# Altium footprint library Conn.Phoenix.PcbLib: 9 footprints
Each footprint in its own frame and in the unit in brackets; x right, y up, seen from the top. Pads: shape width x height; smd on the part's side, far side on the other; paste and mask are expansions set on the pad; w line width, h text height; cw(c..) or ccw(c..) is an arc to the next point about the centre after c.
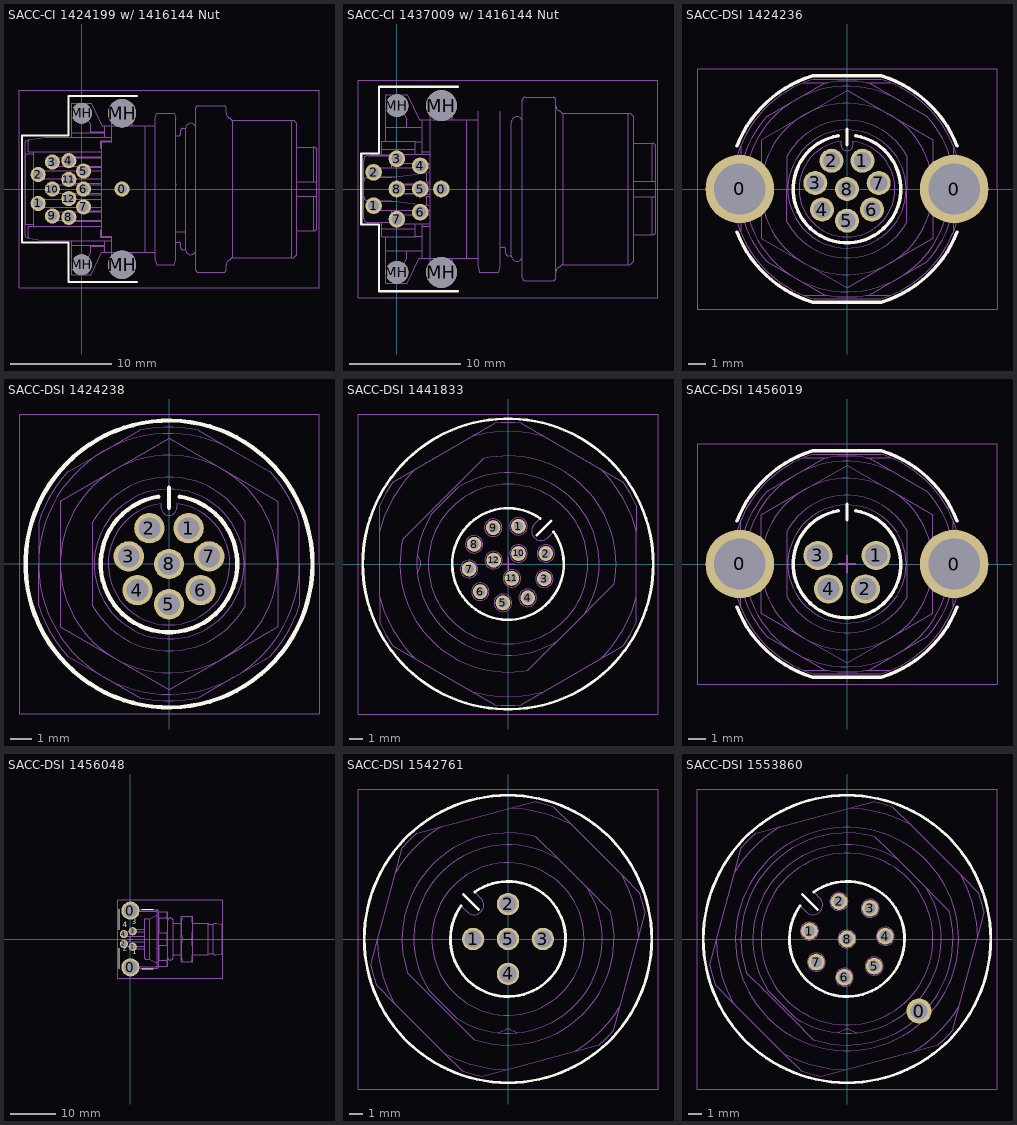
[diagram p0: the footprints below, top view; thin cyan lines are the x and y axes]

## SACC-CI 1424199 w/ 1416144 Nut [mm] "Phoenic SACC-CI Connector with SACC-DSIV-NUT 1416144, 12-Lead, Right Angle Mount"
height 15.9
pads (17):
  round 1.5 hole 1: 0(4,0) 1(-4.3,-1.43) 2(-4.3,1.43) 3(-2.9,2.67) 4(-1.27,2.8) 5(0.2,1.77) 6(0.2,0) 7(0.2,-1.77) 8(-1.27,-2.8) 9(-2.9,-2.67) 10(-2.9,0) 11(-1.27,0.95) 12(-1.27,-0.95)
  round 2.05 hole 2.05 unplated: MH(0,7.5) MH(0,-7.5)
  round 2.8 hole 2.8 unplated: MH(4,-7.5) MH(4,7.5)
Top Overlay:
  lines w0.2: 5.5,-9.2 -1.3,-9.2 -1.3,-5.3 -5.9,-5.3 -5.9,5.3 -1.3,5.3 -1.3,9.2 5.5,9.2
Mechanical 1:
  drawing of 154 lines, arcs and shapes, not listed
Mechanical 15:
  lines w0.05: -6.2,-9.8 23.5,-9.8 23.5,9.8 -6.2,9.8 -6.2,-9.8
  lines w0.1: -0.5,0 0.5,0 ; 0,-0.5 0,0.5
3D body "Phoenix-SACC-CI-1424199_SACC-DSIV-NUT-1416144.STEP": height 16, standoff -3.2, extent -5.7,-9.59 23.3,9.59

## SACC-CI 1437009 w/ 1416144 Nut [mm] "Phoenic SACC-CI Connector with SACC-DSIV-NUT 1416144, 8-Lead, Right Angle Mount"
height 15.9
pads (13):
  round 1.5 hole 1: 0(4,0) 1(-2.1,-1.5) 2(-2.1,1.5) 3(0,2.72) 4(2.1,2.08) 5(2.1,0) 6(2.1,-2.08) 7(0,-2.72) 8(0,0)
  round 2.05 hole 2.05 unplated: MH(0,-7.5) MH(0,7.5)
  round 2.8 hole 2.8 unplated: MH(4,-7.5) MH(4,7.5)
Top Overlay:
  lines w0.2: 5.5,-9.2 -1.6,-9.2 -1.6,-3.2 -3.2,-3.2 -3.2,3.2 -1.6,3.2 -1.6,9.2 5.5,9.2
Mechanical 1:
  drawing of 426 lines, arcs and shapes, not listed
Mechanical 15:
  lines w0.05: -3.5,-9.8 -3.5,9.8 23.5,9.8 23.5,-9.8 -3.5,-9.8
  lines w0.1: -0.5,0 0.5,0 ; 0,-0.5 0,0.5
3D body "Phoenix_SACC-CI-1437009_SACC-DSIV-NUT-1416144.STEP": height 16, standoff -3.2, extent -3,-9.6 23.3,9.6

## SACC-DSI 1424236 [mm] "Phoenix SACC-DSI Header, 8-Leads, 17.7mm Height"
height 17.7
pads (10):
  round 4 hole 3: 0(-6.25,0) 0(6.25,0)
  round 1.4 hole 1: 1(0.9,1.65) 2(-0.9,1.65) 3(-1.85,0.35) 4(-1.45,-1.2) 5(0,-1.85) 6(1.45,-1.2) 7(1.85,0.35) 8(0,0)
Top Overlay:
  lines w0.2: -6.424,-2.509 ccw(c0,0) -2,-6.6 2,-6.6 ccw(c0,0) 6.424,-2.509 ; -6.424,2.509 cw(c0,0) -2,6.6 2,6.6 cw(c0,0) 6.424,2.509 ; -0.5,3.1 ccw(c0,0) 0.5,3.1 ; 0,2.586 0,3.5
Mechanical 1:
  circle w0.05: c1.85,0.35 r0.3
  circle w0.05: c0.9,1.65 r0.3
  circle w0.05: c0,0 r0.3
  circle w0.05: c-1.85,0.35 r0.3
  circle w0.05: c-0.9,1.65 r0.3
  circle w0.05: c-1.45,-1.2 r0.3
  circle w0.05: c0,-1.85 r0.3
  circle w0.05: c1.45,-1.2 r0.3
  circle w0.05: c0,0 r3.45
  circle w0.05: c0,0 r5
  lines w0.05: -6.2,-2.54 -6.2,2.54 ; -2.54,-6.2 -1.118,-6.2 ; -2.54,6.2 -1.118,6.2 ; 1.118,-6.2 2.54,-6.2 ; 1.118,6.2 2.54,6.2 ; 6.2,-2.54 6.2,2.54 ; 3,5.196 ccw(c0,0) 6,0 ; 3,5.196 4.664,4.236 cw(c0,0) 6,1.921 6,0 ; 3,5.196 1.336,6.157 ccw(c0,0) -1.336,6.157 -3,5.196 -4.664,4.236 ccw(c0,0) -6,1.921 -6,0 -6,-1.921 ccw(c0,0) -4.664,-4.236 -3,-5.196 -1.336,-6.157 ccw(c0,0) 1.336,-6.157 3,-5.196 4.664,-4.236 ccw(c0,0) 6,-1.921 6,0 ; -6.4,-1.982 ccw(c0,0) -1.982,-6.4 1.982,-6.4 ccw(c0,0) 6.4,-1.982 6.4,1.982 ccw(c0,0) 1.982,6.4 -1.982,6.4 ccw(c0,0) -6.4,1.982 -6.4,-1.982 ; -5,-2.887 0,-5.774 5,-2.887 5,2.887 0,5.774 -5,2.887 -5,-2.887 ; -3.5,-1.936 ccw(c0,0) 3.5,-1.936 3.5,1.936 ccw(c0,0) -3.5,1.936 -3.5,-1.936 ; -0.35,2.586 ccw(c0,2.586) 0.35,2.586 0.35,2.778 cw(c0,0) -0.35,2.778 -0.35,2.586
Mechanical 15:
  lines w0.05: -8.75,-7 -8.75,7 8.75,7 8.75,-7 -8.75,-7
  lines w0.1: -0.5,0 0.5,0 ; 0,-0.5 0,0.5
3D body "1424236.STEP": height 17.7, standoff -2.9, extent -6.4,-6.4 6.4,6.4

## SACC-DSI 1424238 [mm] "Phoenix SACC-DSI Header, 8-Leads, 17mm Height"
height 17
pads (8):
  round 1.4 hole 1: 1(0.9,1.65) 2(-0.9,1.65) 3(-1.85,0.35) 4(-1.45,-1.2) 5(0,-1.85) 6(1.45,-1.2) 7(1.85,0.35) 8(0,0)
Top Overlay:
  circle w0.2: c0,0 r6.6
  lines w0.2: -0.5,3.1 ccw(c0,0) 0.5,3.1 ; 0,2.586 0,3.5
Mechanical 1:
  circle w0.05: c1.85,0.35 r0.3
  circle w0.05: c0.9,1.65 r0.3
  circle w0.05: c0,0 r0.3
  circle w0.05: c-1.85,0.35 r0.3
  circle w0.05: c-0.9,1.65 r0.3
  circle w0.05: c-1.45,-1.2 r0.3
  circle w0.05: c0,-1.85 r0.3
  circle w0.05: c1.45,-1.2 r0.3
  circle w0.05: c0,0 r3.45
  circle w0.05: c0,0 r5
  lines w0.05: 3,5.196 ccw(c0,0) 6,0 ; 3,5.196 4.664,4.236 cw(c0,0) 6,1.921 6,0 ; 3,5.196 1.336,6.157 ccw(c0,0) -1.336,6.157 -3,5.196 -4.664,4.236 ccw(c0,0) -6,1.921 -6,0 -6,-1.921 ccw(c0,0) -4.664,-4.236 -3,-5.196 -1.336,-6.157 ccw(c0,0) 1.336,-6.157 3,-5.196 4.664,-4.236 ccw(c0,0) 6,-1.921 6,0 ; -5,-2.887 0,-5.774 5,-2.887 5,2.887 0,5.774 -5,2.887 -5,-2.887 ; -3.5,-1.936 ccw(c0,0) 3.5,-1.936 3.5,1.936 ccw(c0,0) -3.5,1.936 -3.5,-1.936 ; -0.35,2.586 ccw(c0,2.586) 0.35,2.586 0.35,2.778 cw(c0,0) -0.35,2.778 -0.35,2.586
Mechanical 15:
  lines w0.05: -6.9,-6.9 -6.9,6.9 6.9,6.9 6.9,-6.9 -6.9,-6.9
  lines w0.1: -0.5,0 0.5,0 ; 0,-0.5 0,0.5
3D body "Phoenix_SACC-DSI_1424238.STEP": height 17, standoff -3.6, extent -6,-6.3 6,6.3

## SACC-DSI 1441833 [mm] "Phoenix SACC-DSI Socket, 25.10mm Height, 12-Lead"
height 25.1
pads (12):
  round 1.1 hole 0.7: 1(0.777,2.794) 2(2.795,0.775) 3(2.686,-1.092) 4(1.461,-2.505) 5(-0.373,-2.876) 6(-2.051,-2.05) 7(-2.876,-0.371) 8(-2.504,1.462) 9(-1.091,2.687) 10(0.778,0.778) 11(0.285,-1.063) 12(-1.063,0.285)
Top Overlay:
  circle w0.2: c0,0 r10.75
  lines w0.2: 2.121,2.121 3.182,3.182 ; 2.38,3.369 ccw(c0,0) 3.369,2.38
Mechanical 1:
  circle w0.05: c-2.876,-0.372 r0.65
  circle w0.05: c-2.051,-2.051 r0.65
  circle w0.05: c-0.372,-2.876 r0.65
  circle w0.05: c1.461,-2.505 r0.65
  circle w0.05: c2.686,-1.092 r0.65
  circle w0.05: c2.795,0.775 r0.65
  circle w0.05: c0.778,0.778 r0.65
  circle w0.05: c-1.063,0.285 r0.65
  circle w0.05: c0.285,-1.063 r0.65
  circle w0.05: c0.775,2.795 r0.65
  circle w0.05: c-1.092,2.686 r0.65
  circle w0.05: c-2.505,1.461 r0.65
  circle w0.05: c-2.876,-0.372 r0.5
  circle w0.05: c-2.051,-2.051 r0.5
  circle w0.05: c1.461,-2.505 r0.5
  circle w0.05: c2.686,-1.092 r0.5
  circle w0.05: c0.778,0.778 r0.5
  circle w0.05: c2.795,0.775 r0.5
  circle w0.05: c0.285,-1.063 r0.5
  circle w0.05: c-1.063,0.285 r0.5
  circle w0.05: c-2.505,1.461 r0.5
  circle w0.05: c-1.092,2.686 r0.5
  circle w0.05: c-0.372,-2.876 r0.5
  circle w0.05: c0.775,2.795 r0.5
  circle w0.05: c0,0 r5.9
  lines w0.05: -6.71,-0.701 -6.491,-0.199 ccw(c-6.95,0) -6.491,0.199 -6.71,0.701 ; -0.98,-10.404 -2.643,-9.444 ; -0.98,10.404 -2.643,9.444 ; -0.98,-10.404 ccw(c0,0) 0.98,-10.404 ; -0.98,10.404 cw(c0,0) 0.98,10.404 ; 0.98,-10.404 2.643,-9.444 ; 0.98,10.404 2.643,9.444 ; 2.726,-3.096 3.787,-1.635 ; -9.5,-2.433 ccw(c0,0) -6.857,-7.011 ; -9.5,-2.433 -9.5,-4.353 ccw(c0,0) -8.52,-6.051 -6.857,-7.011 ; -9.5,-2.433 -9.5,2.433 ; -9.5,2.433 cw(c0,0) -6.857,7.011 ; -9.5,2.433 -9.5,4.353 cw(c0,0) -8.52,6.051 -6.857,7.011 ; -6.857,-7.011 -2.643,-9.444 ; -6.857,7.011 -2.643,9.444 ; -2.643,-9.444 ccw(c0,0) 2.643,-9.444 ; -2.643,9.444 cw(c0,0) 2.643,9.444 ; 2.643,-9.444 6.857,-7.011 ; 2.643,9.444 6.857,7.011 ; 3.666,-5.668 cw(c0,0) -5.668,3.666 -3.666,5.668 cw(c0,0) 5.668,-3.666 ; 3.666,-5.668 5.668,-3.666 ; 3.666,-5.668 3.018,-6.316 1.47,-7.864 cw(c0,0) -7.788,1.828 -5.983,3.634 -3.634,5.983 -1.828,7.788 cw(c0,0) 7.864,-1.47 6.316,-3.018 5.668,-3.666 ; 6.857,-7.011 ccw(c0,0) 9.5,-2.433 ; 6.857,-7.011 8.52,-6.051 ccw(c0,0) 9.5,-4.353 9.5,-2.433 ; 6.857,7.011 cw(c0,0) 9.5,2.433 ; 6.857,7.011 8.52,6.051 cw(c0,0) 9.5,4.353 9.5,2.433 ; 9.5,-2.433 9.5,2.433 ; 1.945,2.934 ccw(c2.44,2.44) 2.934,1.945 3.369,2.38 cw(c0,0) 2.38,3.369 1.945,2.934
Mechanical 15:
  lines w0.05: -11.1,-11.1 11.1,-11.1 11.1,11.1 -11.1,11.1 -11.1,-11.1
  lines w0.1: -0.5,0 0.5,0 ; 0,-0.5 0,0.5
3D body "Phoenix_SACC-DSI_1441833.STEP": height 22.55, standoff -2.5, extent -9.5,-10.45 9.5,10.45

## SACC-DSI 1456019 [mm] "Phoenix SACC-DSI Header, 17.70mm Height, 4-Lead with 2 GND Pads"
height 17.7
pads (6):
  round 4 hole 3: 0(-6.25,0) 0(6.25,0)
  round 1.7 hole 1.3: 1(1.7,0.5) 2(1.075,-1.45) 3(-1.7,0.5) 4(-1.075,-1.45)
Top Overlay:
  lines w0.2: -6.424,-2.509 ccw(c0,0) -2,-6.6 2,-6.6 ccw(c0,0) 6.424,-2.509 ; -6.424,2.509 cw(c0,0) -2,6.6 2,6.6 cw(c0,0) 6.424,2.509 ; -0.5,3.1 ccw(c0,0) 0.5,3.1 ; 0,2.586 0,3.5
Mechanical 1:
  circle w0.05: c0,0 r3.45
  circle w0.05: c1.7,0.5 r0.5
  circle w0.05: c-1.7,0.5 r0.5
  circle w0.05: c0,0 r5
  circle w0.05: c1.075,-1.45 r0.5
  circle w0.05: c-1.075,-1.45 r0.5
  lines w0.05: -6.2,-2.54 -6.2,2.54 ; -2.54,-6.2 -1.118,-6.2 ; -2.54,6.2 -1.118,6.2 ; 1.118,-6.2 2.54,-6.2 ; 1.118,6.2 2.54,6.2 ; 6.2,-2.54 6.2,2.54 ; 3,5.196 ccw(c0,0) 6,0 ; 3,5.196 1.337,6.157 ccw(c0,0) -1.336,6.157 -3,5.196 -4.663,4.236 ccw(c0,0) -6,1.921 -6,0 -6,-1.921 ccw(c0,0) -4.663,-4.236 -3,-5.196 -1.336,-6.156 ccw(c0,0) 1.337,-6.156 3,-5.196 4.664,-4.236 ccw(c0,0) 6,-1.921 6,0 ; 3,5.196 4.664,4.236 cw(c0,0) 6,1.921 6,0 ; -6.4,-1.982 ccw(c0,0) -1.982,-6.4 1.983,-6.4 ccw(c0,0) 6.4,-1.982 6.4,1.983 ccw(c0,0) 1.983,6.4 -1.982,6.4 ccw(c0,0) -6.4,1.983 -6.4,-1.982 ; -5,-2.887 -2.5,-4.33 0,-5.773 2.5,-4.33 5,-2.887 5,0 5,2.887 2.5,4.33 0,5.774 -2.5,4.33 -5,2.887 -5,0 -5,-2.887 ; -3.5,-1.936 ccw(c0,0) 3.5,-1.936 3.5,0 3.5,1.937 ccw(c0,0) -3.5,1.937 -3.5,0 -3.5,-1.936
Mechanical 15:
  lines w0.05: -8.75,-7 -8.75,7 8.75,7 8.75,-7 -8.75,-7
  lines w0.1: -0.5,0 0.5,0 ; 0,-0.5 0,0.5
3D body "Phoenix_SACC-DSI_1456019.STEP": height 17.7, standoff -2.9, extent -6.4,-6.4 6.4,6.4

## SACC-DSI 1456048 [mm] "Phoenix SACC-DSI Header, 4 Leads, 17.00mm Length"
height 12.7
pads (6):
  round 4 hole 3: 0(0,-6.25) 0(0,6.25)
  round 1.8 hole 1.3: 1(0.5,-1.7) 2(-1.45,-1.075) 3(0.5,1.7) 4(-1.45,1.075)
Top Overlay:
  lines w0.2: -2.5,-6.6 -2.5,-2 ; -2.5,2 -2.5,6.6 ; 2.5,-6.6 5,-6.6 ; 2.5,6.6 5,6.6
  text "4" at -1.704,2.175 h2
  text "1" at 0.392,-3.672 h2
  text "3" at 0.284,2.809 h2
  text "2" at -1.667,-3.083 h2
Mechanical 1:
  drawing of 237 lines, arcs and shapes, not listed
Mechanical 15:
  lines w0.05: -2.8,-8.6 20.4,-8.6 20.4,8.6 -2.8,8.6 -2.8,-8.6
  lines w0.1: -0.5,0 0.5,0 ; 0,-0.5 0,0.5
3D body "Phoenix_SACC-DSI_1456048.STEP": height 12.75, standoff -3.3, extent -1.95,-6.4 20.2,6.4

## SACC-DSI 1542761 [mm] "Phoenix SACC-DSI Socket, 21.00mm Height, 5-Lead"
height 21
pads (5):
  round 1.6 hole 1.2: 1(-2.5,0) 2(0,2.5) 3(2.5,0) 4(0,-2.5) 5(0,0)
Top Overlay:
  circle w0.2: c0,0 r10.3
  lines w0.2: -3.369,2.38 ccw(c0,0) -2.38,3.369 ; -3.182,3.182 -2.121,2.121
Mechanical 1:
  circle w0.05: c2.5,0 r0.75
  circle w0.05: c0,2.5 r0.75
  circle w0.05: c-2.5,0 r0.75
  circle w0.05: c0,-2.5 r0.75
  circle w0.05: c-2.5,0 r0.55
  circle w0.05: c2.5,0 r0.55
  circle w0.05: c0,2.5 r0.55
  circle w0.05: c0,-2.5 r0.55
  circle w0.05: c0,0 r0.55
  circle w0.05: c0,0 r0.75
  circle w0.05: c0,0 r5.459
  lines w0.05: -0.701,-6.71 -0.199,-6.491 cw(c0,-6.95) 0.199,-6.491 0.701,-6.71 ; -9.356,-0.142 ccw(c0,0) -8.173,-4.555 ; -9.356,-0.142 -9.821,-1.881 ccw(c0,0) -9.446,-3.282 -8.173,-4.555 ; -9.356,-0.142 -8.031,4.801 ; -8.173,-4.555 -4.555,-8.173 ; -8.031,4.801 cw(c0,0) -4.801,8.031 ; -8.031,4.801 -7.565,6.54 cw(c0,0) -6.54,7.565 -4.801,8.031 ; -4.801,8.031 0.142,9.356 ; -4.555,-8.173 ccw(c0,0) -0.142,-9.356 ; -4.555,-8.173 -3.282,-9.446 ccw(c0,0) -1.881,-9.821 -0.142,-9.356 ; -0.142,-9.356 4.801,-8.031 ; 0.142,9.356 cw(c0,0) 4.555,8.173 ; 0.142,9.356 1.881,9.821 cw(c0,0) 3.282,9.446 4.555,8.173 ; 3.666,5.668 ccw(c0,0) -5.668,-3.666 -3.666,-5.668 ccw(c0,0) 5.668,3.666 ; 3.666,5.668 5.668,3.666 ; 3.666,5.668 2.002,7.331 ccw(c0,0) -7.208,-2.408 -2.408,-7.208 ccw(c0,0) 7.331,2.002 5.668,3.666 ; 4.555,8.173 8.173,4.555 ; 4.801,-8.031 ccw(c0,0) 8.031,-4.801 ; 4.801,-8.031 6.54,-7.565 ccw(c0,0) 7.565,-6.54 8.031,-4.801 ; 8.031,-4.801 9.356,0.142 ; 8.173,4.555 cw(c0,0) 9.356,0.142 ; 8.173,4.555 9.446,3.282 cw(c0,0) 9.821,1.881 9.356,0.142 ; -3.369,2.38 ccw(c0,0) -2.38,3.369 -1.945,2.934 cw(c-2.44,2.44) -2.934,1.945 -3.369,2.38
Mechanical 15:
  lines w0.05: -10.75,-10.75 -10.75,10.75 10.75,10.75 10.75,-10.75 -10.75,-10.75
  lines w0.1: -0.5,0 0.5,0 ; 0,-0.5 0,0.5
3D body "Phoenix_SACC-DSI_1542761.STEP": height 22.55, standoff -3, extent -9.821,-9.821 9.821,9.821

## SACC-DSI 1553860 [mm] "Phoenix SACC-DSI Socket, 24.6mm Height, 8-Lead with Ground Pad"
height 24.6
pads (9):
  round 1.8 hole 1.2: 0(5.162,-5.162)
  round 1.2 hole 0.8: 1(-2.69,0.572) 2(-0.572,2.69) 3(1.655,2.196) 4(2.743,0.192) 5(1.945,-1.945) 6(-0.192,-2.743) 7(-2.196,-1.655) 8(0,0)
Top Overlay:
  circle w0.2: c0,0 r10.3
  lines w0.2: -3.369,2.38 ccw(c0,0) -2.38,3.369 ; -3.182,3.182 -2.121,2.121
Mechanical 1:
  circle w0.05: c0,0 r6.158
  circle w0.05: c-0.572,2.69 r0.45
  circle w0.05: c-0.572,2.69 r0.65
  circle w0.05: c1.655,2.196 r0.45
  circle w0.05: c1.655,2.196 r0.65
  circle w0.05: c2.743,0.192 r0.45
  circle w0.05: c2.743,0.192 r0.65
  circle w0.05: c1.945,-1.945 r0.45
  circle w0.05: c1.945,-1.945 r0.65
  circle w0.05: c-0.192,-2.743 r0.45
  circle w0.05: c-0.192,-2.743 r0.65
  circle w0.05: c-2.196,-1.655 r0.45
  circle w0.05: c-2.196,-1.655 r0.65
  circle w0.05: c-2.69,0.572 r0.45
  circle w0.05: c-2.69,0.572 r0.65
  circle w0.05: c0,0 r0.45
  circle w0.05: c0,0 r0.65
  circle w0.05: c0,0 r8
  lines w0.05: -0.701,-6.71 -0.199,-6.491 cw(c0,-6.95) 0.199,-6.491 0.701,-6.71 ; 0.739,-6.709 cw(c0,0) -3.666,-5.668 -5.668,-3.666 cw(c0,0) 3.666,5.668 ; 0.762,-6.707 ccw(c0,0) 5.668,3.666 ; -9.356,-0.142 ccw(c0,0) -8.173,-4.555 ; -9.356,-0.142 -8.031,4.801 ; -9.356,-0.142 -9.822,-1.881 ccw(c0,0) -9.446,-3.282 -8.173,-4.555 ; -8.173,-4.555 -4.555,-8.173 ; -8.031,4.801 cw(c0,0) -4.801,8.031 ; -8.031,4.801 -7.565,6.54 cw(c0,0) -6.54,7.565 -4.801,8.031 ; -4.801,8.031 0.142,9.356 ; -4.555,-8.173 ccw(c0,0) -0.142,-9.356 ; -4.555,-8.173 -3.282,-9.446 ccw(c0,0) -1.881,-9.821 -0.142,-9.356 ; -0.142,-9.356 4.801,-8.031 ; 0.142,9.356 cw(c0,0) 4.555,8.173 ; 0.142,9.356 1.881,9.822 cw(c0,0) 3.282,9.446 4.555,8.173 ; 3.666,5.668 5.668,3.666 ; 3.666,5.668 3.015,6.319 2.002,7.331 ccw(c0,0) -7.208,-2.408 -5.753,-3.864 -3.864,-5.753 -2.408,-7.208 ccw(c0,0) 7.331,2.002 6.161,3.173 5.668,3.666 ; 4.555,8.173 8.173,4.555 ; 4.801,-8.031 ccw(c0,0) 8.031,-4.801 ; 4.801,-8.031 6.54,-7.565 ccw(c0,0) 7.565,-6.54 8.031,-4.801 ; 8.031,-4.801 9.356,0.142 ; 8.173,4.555 cw(c0,0) 9.356,0.142 ; 8.173,4.555 9.446,3.282 cw(c0,0) 9.821,1.881 9.356,0.142 ; -3.369,2.38 ccw(c0,0) -2.38,3.369 -1.945,2.934 cw(c-2.44,2.44) -2.934,1.945 -3.369,2.38
Mechanical 15:
  lines w0.05: -10.75,-10.75 -10.75,10.75 10.75,10.75 10.75,-10.75 -10.75,-10.75
  lines w0.1: -0.5,0 0.5,0 ; 0,-0.5 0,0.5
3D body "Phoenix_SACC-DSI_1553860.STEP": height 22.55, standoff -3, extent -9.821,-9.821 9.821,9.821